# Altium footprint library FP-LRTB_GVTG.PcbLib: 1 footprints
Each footprint in its own frame and in the unit in brackets; x right, y up, seen from the top. Pads: shape width x height; smd on the part's side, far side on the other; paste and mask are expansions set on the pad; w line width, h text height; cw(c..) or ccw(c..) is an arc to the next point about the centre after c.
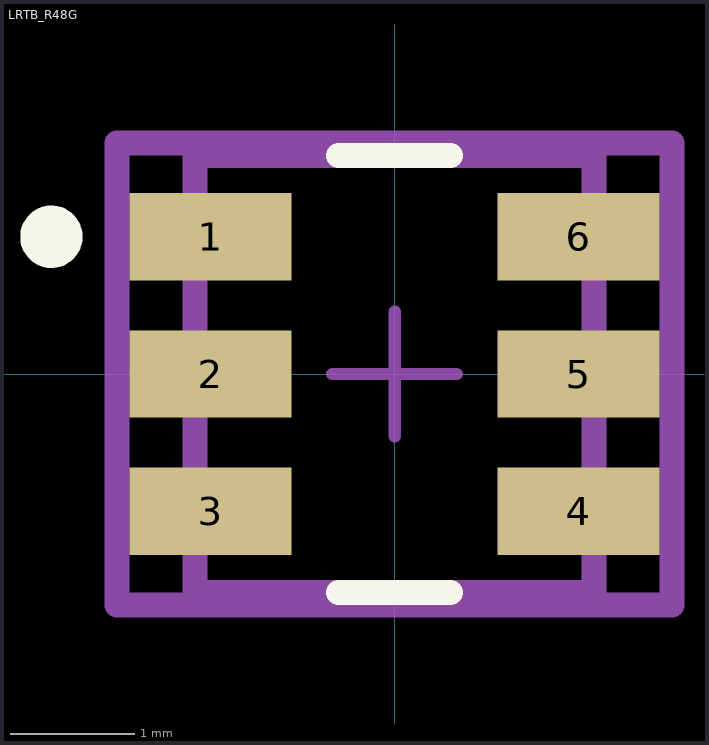
[diagram p0: the footprint, top view; thin cyan lines are the x and y axes]

## LRTB_R48G [mm]
pads (6):
  rect 1.3x0.7 smd paste+0 mask+0: 1(-1.475,1.1) 2(-1.475,0) 3(-1.475,-1.1) 4(1.475,-1.1) 5(1.475,0) 6(1.475,1.1)
Top Overlay:
  circle w0.25: c-2.75,1.1 r0.125
  lines w0.2: -0.45,-1.75 0.45,-1.75 ; -0.45,1.75 0.45,1.75
Mechanical 5:
  lines w0.2: -2.225,-1.85 2.225,-1.85 2.225,1.85 -2.225,1.85 -2.225,-1.85
  text ".Designator" at 0,0.188 h1
Mechanical 13:
  lines w0.2: -1.6,-1.75 1.6,-1.75 1.6,1.75 -1.6,1.75 -1.6,-1.75
Mechanical 15:
  lines w0.2: -2.225,-1.85 2.225,-1.85 2.225,1.85 -2.225,1.85 -2.225,-1.85
Mechanical 16:
  lines w0.1: -0.5,0 0.5,0 ; 0,-0.5 0,0.5
3D body "Diode_Osram_Opto_LRTBGVTG-U5V5-1+A5B5-29+S9T9-49_eec.STEP": height 0.25, standoff 0, extent -2.225,-1.85 2.225,1.85